# EAGLE library part WF-7 (library gost_con_wf)
Разъем WF шаг 2.54mm
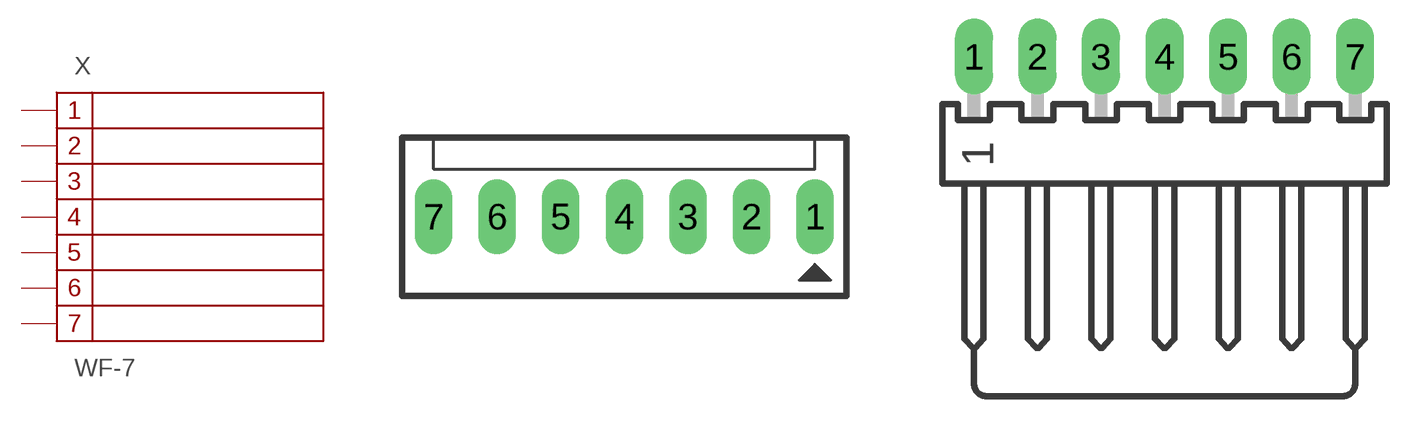
[diagram p6: symbol with the pads of WF-7; footprints WF-7, WF-7R]

Designator prefix X

## WF-7  [WF-7]
1  1
2  2
3  3
4  4
5  5
6  6
7  7

## WF-7R  [WF-7R]
Pads as for WF-7

## Footprint WF-7 (pad centres in mm)
Разъем WF-7 2.54mm
drill 1 pad 1.5 long: 1 7.62,0; 2 5.08,0; 3 2.54,0; 4 0,0; 5 -2.54,0; 6 -5.08,0; 7 -7.62,0

## Footprint WF-7R (pad centres in mm)
Разъем WF-7R 2.54mm
drill 1.016 pad 1.5 long: 1 -7.62,0; 2 -5.08,0; 3 -2.54,0; 4 0,0; 5 2.54,0; 6 5.08,0; 7 7.62,0